# Altium schematic symbol library SN74ACT244IDWREP.SchLib: 1 symbol
Pins are listed as number, name and electrical type; pins without a type are passive.

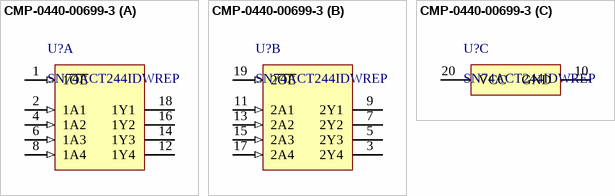
[diagram p0: symbol CMP-0440-00699-3]

## CMP-0440-00699-3
designator U?, comment SN74ACT244IDWREP
Enhanced Product Octal Buffers/Drivers With 3-State Outputs, DW0020A, LARGE T&R; Generic Part Number: SN74ACT244-EP; Manufacturer: Texas Instruments; Rating: HiRel Enhanced Product; VCC(Max)(V): 5.5; Output Type: CMOS; ICC @ Nom Voltage(Max)(mA): 0.04; F @ Nom Voltage(Max)(Mhz): 90; tpd @ Nom Voltage(Max)(ns): 9; Voltage(Nom)(V): 5; Input Type: TTL; VCC(Min)(V): 4.5; PackageReference: DW0020A; Code_JEDEC: MS-013; DatasheetVersion: SCAS724B; Operating Temperature Range(C): -40 to 85; PackageVersion: http://www.ti.com/lit/ml/mpds173a/mpds173a.pdf
footprint DW0020A_L (SOIC, 20-Leads, Body 13x7.6mm, Pitch 1.27mm, IPC High Density)
footprint DW0020A_N (SOIC, 20-Leads, Body 13x7.6mm, Pitch 1.27mm, IPC Medium Density)
footprint DW0020A_M (SOIC, 20-Leads, Body 13x7.6mm, Pitch 1.27mm, IPC Low Density)
part A pins: 1 1~{OE} (in) "Output Enable 1", 2 1A1 (in) "1A1 Input", 4 1A2 (in) "1A2 Input", 6 1A3 (in) "1A3 Input", 8 1A4 (in) "1A4 Input", 12 1Y4 (hiz) "1Y4 Output", 14 1Y3 (hiz) "1Y3 Output", 16 1Y2 (hiz) "1Y2 Output", 18 1Y1 (hiz) "1Y1 Output"
part B pins: 3 2Y4 (hiz) "2Y4 Output", 5 2Y3 (hiz) "2Y3 Output", 7 2Y2 (hiz) "2Y2 Output", 9 2Y1 (hiz) "2Y1 Output", 11 2A1 (in) "2A1 Input", 13 2A2 (in) "2A2 Input", 15 2A3 (in) "2A3 Input", 17 2A4 (in) "2A4 Input", 19 2~{OE} (in) "Output Enable 2"
part C pins: 10 GND (power) "Ground Pin", 20 VCC (power) "Power Pin"